# Altium schematic symbol library power.SchLib: 83 symbols
Pins are listed as number, name and electrical type; pins without a type are passive.

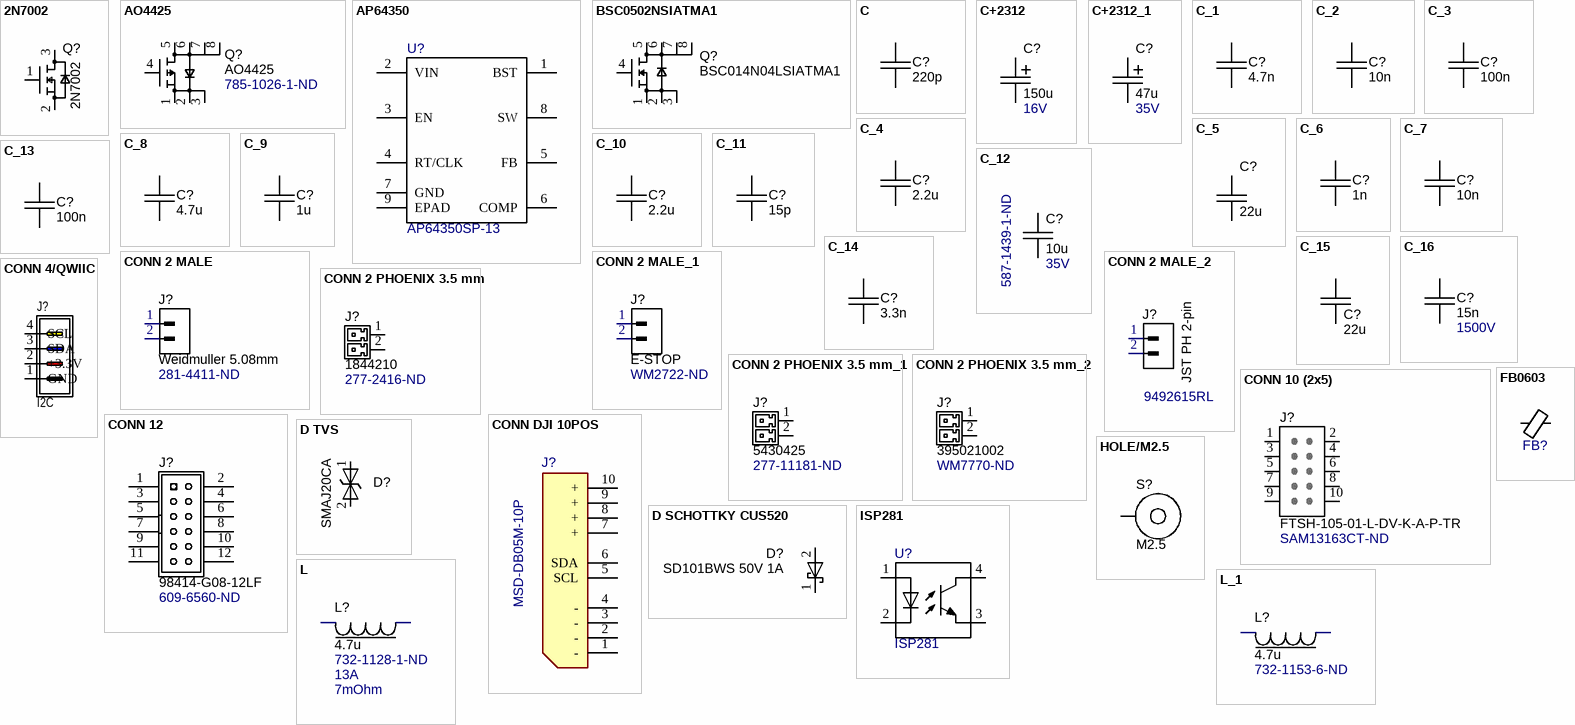
[diagram p0: symbols 2N7002 to L_1]

## 2N7002
designator Q?
MOSFET N-CH 60V 115MA SOT323; Value: 2N7002; Supplier 1: Digi-Key; Supplier Part Number 1: 2N7002H6327XTSA2CT-ND
footprint SOT23-3 (SOT23, 3-Leads, Body 3.0x2.6mm (max), Pitch 0.95mm, IPC Low Density)
pins: 1 VCC, 2 VCC, 3 VCC

## AO4425
designator Q?  Supplier Part Number 1: 785-1026-1-ND
P-Channel 38 V 14A (Ta) 3.1W (Ta) Surface Mount 8-SOIC; Rule: UNIONINDEX=0|RULEKIND=PolygonConnect|NETSCOPE=AnyNet|LAYERKIND=SameLayer|NAME=Schematic Polygon Connect Style|CONNECTSTYLE=Relief|RELIEFCONDUCTORWIDTH=15.748mil|RELIEFENTRIES=4|POLYGONRELIEFANGLE=90 Angle|AIRGAPWIDTH=5.9055mil|UNIT=Metric; Value: AO4425; Supplier 1: Digi-Key
footprint SOIC8 (8-Pin Small Outline Integrated Circuit 1.27 mm Pitch, IPC Low Density)
pins: 1 S, 2 S, 3 S, 4 Gate, 5 D, 6 D, 7 D, 8 D

## AP64350
designator U?, comment AP64350SP-13
Buck Switching Regulator IC Positive Adjustable 0.8V 1 Output 3.5A 8-SOIC (0.154", 3.90mm Width) Exposed Pad; Supplier 1: Avnet; Supplier Part Number 1: AP64350SP-13; Value: AP64350SP-13
footprint SOIC8-POWER_PAD (8-Pin Small Outline Integrated Circuit 1.27 mm Pitch, IPC Low Density)
pins: 1 BST, 2 VIN, 3 EN, 4 RT/CLK, 5 FB, 6 COMP, 7 GND, 8 SW, 9 EPAD

## BSC0502NSIATMA1
designator Q?, comment BSC014N04LSIATMA1
MOSFET N-CH 40V 31A/100A TDSON; Rule: UNIONINDEX=0|RULEKIND=PolygonConnect|NETSCOPE=AnyNet|LAYERKIND=SameLayer|NAME=Schematic Polygon Connect Style|CONNECTSTYLE=Relief|RELIEFCONDUCTORWIDTH=11.811mil|RELIEFENTRIES=4|POLYGONRELIEFANGLE=90 Angle|AIRGAPWIDTH=5.9055mil|UNIT=Metric; Value: BSC014N04LSIATMA1; Supplier 1: Digi-Key; Supplier Part Number 1: BSC014N04LSIATMA1CT-ND
footprint PG-TDSON-8_INF
pins: 1 S, 2 S, 3 S, 4 Gate, 5 D, 6 D, 7 D, 8 D

## C
designator C?, comment 220p
Chip Capacitor; Voltage: 16V; Dielectric: X7R; Supplier 2 Part Number: 1292-1393-1-ND; Supplier 2: Digi-Key; Value: 220p
footprint SM/C0603 (Chip Capacitor, Body 1.6x0.8mm, IPC Low Density)
pins: 1, 2

## C+2312
designator C?, comment 150u  Voltage: 16V
CAP ALUM POLY 150UF 20% 16V SMD; Rule: UNIONINDEX=0|RULEKIND=PolygonConnect|NETSCOPE=AnyNet|LAYERKIND=SameLayer|NAME=Schematic Polygon Connect Style|CONNECTSTYLE=Relief|RELIEFCONDUCTORWIDTH=39.3701mil|RELIEFENTRIES=4|POLYGONRELIEFANGLE=90 Angle|AIRGAPWIDTH=5.9055mil|UNIT=Metric; Value: 16SVP150M; Supplier 1: Digi-Key; Supplier Part Number 1: P16458CT-ND
footprint CAP_16SVP150M
pins: 1 +, 2 -

## C+2312_1
designator C?, comment 47u  Voltage: 35V
47µF Molded Tantalum Capacitors 25V 2917 (7343 Metric) 900mOhm; Rule: UNIONINDEX=0|RULEKIND=PolygonConnect|NETSCOPE=AnyNet|LAYERKIND=SameLayer|NAME=Schematic Polygon Connect Style|CONNECTSTYLE=Relief|RELIEFCONDUCTORWIDTH=39.3701mil|RELIEFENTRIES=4|POLYGONRELIEFANGLE=90 Angle|AIRGAPWIDTH=5.9055mil|UNIT=Metric; ESR: 200m; Supplier 1: Digi-Key; Supplier Part Number 1: 399-8543-1-ND; Value: 47u
footprint CAP-TANTAL-2917-7343
pins: 1 +, 2 -

## C_1
designator C?, comment 4.7n
Chip Capacitor; Voltage: 16V; Dielectric: X7R; Supplier 2 Part Number: 1292-1393-1-ND; Supplier 2: Digi-Key; Value: 4.7n
footprint SM/C0603 (Chip Capacitor, Body 1.6x0.8mm, IPC Low Density)
pins: 1, 2

## C_2
designator C?, comment 10n
Chip Capacitor; Voltage: 16V; Dielectric: X7R; Supplier 2 Part Number: 1292-1393-1-ND; Supplier 2: Digi-Key; Value: 10n
footprint SM/C0603 (Chip Capacitor, Body 1.6x0.8mm, IPC Low Density)
pins: 1, 2

## C_3
designator C?, comment 100n
Chip Capacitor; Voltage: 16V; Dielectric: X7R; Supplier 2 Part Number: 1292-1393-1-ND; Supplier 2: Digi-Key; Value: 100n
footprint SM/C0603 (Chip Capacitor, Body 1.6x0.8mm, IPC Low Density)
pins: 1, 2

## C_4
designator C?, comment 2.2u
GMK325B7225KNHT CAP CER 2.2UF 35V X7R 1210; Rule: UNIONINDEX=0|RULEKIND=PolygonConnect|NETSCOPE=AnyNet|LAYERKIND=SameLayer|NAME=Schematic Polygon Connect Style|CONNECTSTYLE=Relief|RELIEFCONDUCTORWIDTH=39.3701mil|RELIEFENTRIES=4|POLYGONRELIEFANGLE=90 Angle|AIRGAPWIDTH=5.9055mil|UNIT=Metric; Voltage: 35V; Dielectric: X7R; Supplier 1: Digi-Key; Supplier Part Number 1: 587-3720-1-ND; Value: GMK325B7225KNHT
footprint SM/C1210 (Chip Resistor, Body 3.2x1.6mm, IPC Low Density)
pins: 1, 2

## C_5
designator C?, comment 22u
CL32B226KOJVPJE CAP CER 22UF 16V X7R 1210; Rule: UNIONINDEX=0|RULEKIND=PolygonConnect|NETSCOPE=AnyNet|LAYERKIND=SameLayer|NAME=Schematic Polygon Connect Style|CONNECTSTYLE=Relief|RELIEFCONDUCTORWIDTH=39.3701mil|RELIEFENTRIES=4|POLYGONRELIEFANGLE=90 Angle|AIRGAPWIDTH=5.9055mil|UNIT=Metric; Supplier 1: Digi-Key; Supplier Part Number 1: 1276-6801-1-ND; Value: 22u
footprint SM/C1210 (Chip Resistor, Body 3.2x1.6mm, IPC Low Density)
pins: 1, 2

## C_6
designator C?, comment 1n
Chip Capacitor; Voltage: 16V; Dielectric: X7R; Value: 1n
footprint SM/C0603 (Chip Capacitor, Body 1.6x0.8mm, IPC Low Density)
pins: 1, 2

## C_7
designator C?, comment 10n
Chip Capacitor; Voltage: 16V; Dielectric: X7R; Value: 10n
footprint SM/C0603 (Chip Capacitor, Body 1.6x0.8mm, IPC Low Density)
pins: 1, 2

## C_8
designator C?, comment 4.7u
Chip Capacitor; Voltage: 16V; Dielectric: X7R; Value: 4.7u
footprint SM/C0603 (Chip Capacitor, Body 1.6x0.8mm, IPC Low Density)
pins: 1, 2

## C_9
designator C?, comment 1u
Chip Capacitor; Voltage: 16V; Dielectric: X7R; Value: 1u
footprint SM/C0603 (Chip Capacitor, Body 1.6x0.8mm, IPC Low Density)
pins: 1, 2

## C_10
designator C?, comment 2.2u
GMK325B7225KNHT CAP CER 2.2UF 35V X7R 1210; Voltage: 16V; Rule: UNIONINDEX=0|RULEKIND=PolygonConnect|NETSCOPE=AnyNet|LAYERKIND=SameLayer|NAME=Schematic Polygon Connect Style|CONNECTSTYLE=Relief|RELIEFCONDUCTORWIDTH=39.3701mil|RELIEFENTRIES=4|POLYGONRELIEFANGLE=90 Angle|AIRGAPWIDTH=5.9055mil|UNIT=Metric; Dielectric: X7R; Supplier 2 Part Number: 1292-1393-1-ND; Supplier 2: Digi-Key; Supplier 1: Digi-Key; Supplier Part Number 1: 587-3720-1-ND; Value: 2.2u
footprint SM/C1210 (Chip Resistor, Body 3.2x1.6mm, IPC Low Density)
pins: 1, 2

## C_11
designator C?, comment 15p
Chip Capacitor; Voltage: 16V; Dielectric: X7R; Value: 15p
footprint SM/C0603 (Chip Capacitor, Body 1.6x0.8mm, IPC Low Density)
pins: 1, 2

## C_12
designator C?, comment 10u  Supplier Part Number 1: 587-1439-1-ND  Voltage: 35V
10µF ±10% 25V Ceramic Capacitor X5R 1210 (3225 Metric); Rule: UNIONINDEX=0|RULEKIND=PolygonConnect|NETSCOPE=AnyNet|LAYERKIND=SameLayer|NAME=Schematic Polygon Connect Style|CONNECTSTYLE=Relief|RELIEFCONDUCTORWIDTH=39.3701mil|RELIEFENTRIES=4|POLYGONRELIEFANGLE=90 Angle|AIRGAPWIDTH=5.9055mil|UNIT=Metric; Value: GMK325BJ106KN-T; Supplier 1: Digi-Key
footprint SM/C1210 (Chip Resistor, Body 3.2x1.6mm, IPC Low Density)
pins: 1, 2

## C_13
designator C?, comment 100n
CL32B226KPJVPNE; Supplier 1: Digi-Key; Supplier Part Number 1: 490-1719-1-ND; Value: 100n
footprint SM/C0603 (Chip Capacitor, Body 1.6x0.8mm, IPC Low Density)
pins: 1, 2

## C_14
designator C?, comment 3.3n
CL32B226KPJVPNE; Supplier 1: Digi-Key; Supplier Part Number 1: 490-1719-1-ND; Value: 3.3n
footprint SM/C0603 (Chip Capacitor, Body 1.6x0.8mm, IPC Low Density)
pins: 1, 2

## C_15
designator C?, comment 22u
CL32B226KPJVPNE; Rule: UNIONINDEX=0|RULEKIND=PolygonConnect|NETSCOPE=AnyNet|LAYERKIND=SameLayer|NAME=Schematic Polygon Connect Style|CONNECTSTYLE=Relief|RELIEFCONDUCTORWIDTH=39.3701mil|RELIEFENTRIES=4|POLYGONRELIEFANGLE=90 Angle|AIRGAPWIDTH=5.9055mil|UNIT=Metric; Supplier 1: Digi-Key; Supplier Part Number 1: 490-1719-1-ND; Value: 22u
footprint SM/C1210 (Chip Resistor, Body 3.2x1.6mm, IPC Low Density)
pins: 1, 2

## C_16
designator C?, comment 15n  Voltage: 1500V
0.015 µF ±10% 1500V (1.5kV) Ceramic Capacitor X7R 1812 (4532 Metric); Dielectric: X7R; Supplier 1: Digi-Key; Supplier Part Number 1: 478-10711-1-ND; Value: 15n
footprint SM/C0603 (Chip Capacitor, Body 1.6x0.8mm, IPC Low Density)
footprint SM/C1812 (Footprint not found)
pins: 1, 2

## CONN 2 MALE
designator J?, comment Weidmuller 5.08mm  Supplier Part Number 1: 281-4411-ND
TERM BLOCK HDR 2POS 90DEG 5.08MM; Value: 1241060000; Rule: UNIONINDEX=0|RULEKIND=PolygonConnect|NETSCOPE=AnyNet|LAYERKIND=SameLayer|NAME=Schematic Polygon Connect Style|CONNECTSTYLE=Relief|RELIEFCONDUCTORWIDTH=39.3701mil|RELIEFENTRIES=4|POLYGONRELIEFANGLE=90 Angle|AIRGAPWIDTH=5.9055mil|UNIT=Metric; Supplier 1: Digi-Key
footprint CONN 2POS WEIDMULLER 5.08mm
pins: 1, 2

## CONN 2 MALE_1
designator J?, comment E-STOP  Supplier Part Number 1: WM2722-ND
Value: CONN 2.54; Supplier 1: Digi-Key
footprint CONN/HEADER/2.54mm/2POS
pins: 1, 2

## CONN 2 MALE_2
designator J?, comment JST PH 2-pin  Supplier Part Number 1: 9492615RL
Value: JST S2BPHSM4TBLFSN; Rule: UNIONINDEX=0|RULEKIND=PolygonConnect|NETSCOPE=AnyNet|LAYERKIND=SameLayer|NAME=Schematic Polygon Connect Style|CONNECTSTYLE=Relief|RELIEFCONDUCTORWIDTH=39.3701mil|RELIEFENTRIES=4|POLYGONRELIEFANGLE=90 Angle|AIRGAPWIDTH=5.9055mil|UNIT=Metric; Supplier 1: Farnell
footprint JST_S2B-PH-SM4-TB(LF)(SN)
pins: 1, 2

## CONN 2 PHOENIX 3.5 mm
designator J?, comment 1844210  Supplier Part Number 1: 277-2416-ND
TERM BLOCK HDR 2POS 90DEG 3.5MM; Imax: 8A; Rule: UNIONINDEX=0|RULEKIND=PolygonConnect|NETSCOPE=AnyNet|LAYERKIND=SameLayer|NAME=Schematic Polygon Connect Style|CONNECTSTYLE=Relief|RELIEFCONDUCTORWIDTH=39.3701mil|RELIEFENTRIES=4|POLYGONRELIEFANGLE=90 Angle|AIRGAPWIDTH=5.9055mil|UNIT=Metric; Supplier 1: Digi-Key; Value: 1844210
footprint CONN2/PHOENIX/MC 1.5-2-G-3.5
pins: 1, 2

## CONN 2 PHOENIX 3.5 mm_1
designator J?, comment 5430425  Supplier Part Number 1: 277-11181-ND
TERM BLOCK HDR 2POS 90DEG 3.5MM; Imax: 8A; Rule: UNIONINDEX=0|RULEKIND=PolygonConnect|NETSCOPE=AnyNet|LAYERKIND=SameLayer|NAME=Schematic Polygon Connect Style|CONNECTSTYLE=Relief|RELIEFCONDUCTORWIDTH=39.3701mil|RELIEFENTRIES=4|POLYGONRELIEFANGLE=90 Angle|AIRGAPWIDTH=5.9055mil|UNIT=Metric; Supplier 1: Digi-Key; Value: 5430425
footprint CONN2/PHOENIX/MC 1.5-2-G-3.5-GRAY
pins: 1, 2

## CONN 2 PHOENIX 3.5 mm_2
designator J?, comment 395021002  Supplier Part Number 1: WM7770-ND
TERM BLOCK HDR 2POS 90DEG 3.5MM BLACK; Imax: 8A; Rule: UNIONINDEX=0|RULEKIND=PolygonConnect|NETSCOPE=AnyNet|LAYERKIND=SameLayer|NAME=Schematic Polygon Connect Style|CONNECTSTYLE=Relief|RELIEFCONDUCTORWIDTH=39.3701mil|RELIEFENTRIES=4|POLYGONRELIEFANGLE=90 Angle|AIRGAPWIDTH=5.9055mil|UNIT=Metric; Supplier 1: Digi-Key; Value: 395021002
footprint CONN2/PHOENIX/MC 1.5-2-G-3.5-BLACK
pins: 1, 2

## CONN 4/QWIIC
designator J?, comment I2C
JST Sparkfun Qwiic Connector; Value: Sparkfun Qwiic
footprint QWIIC-SM04B-SRSS-TB
pins: 1 GND (power), 2 +3.3V (power), 3 SDA (oc), 4 SCL (oc)

## CONN 10 (2x5)
designator J?, comment FTSH-105-01-L-DV-K-A-P-TR  Supplier Part Number 1: SAM13163CT-ND
Connector Header Surface Mount 10 position 0.050" (1.27mm); Supplier 1: Digi-Key
footprint SAMTEC_FTSH-105-01-L-DV-K-A-P (Footprint not found)
pins: 1, 2, 3, 4, 5, 6, 7, 8, 9, 10

## CONN 12
designator J?, comment 98414-G08-12LF  Supplier Part Number 1: 609-6560-ND
CONN HEADER VERT 12POS 2MM; Supplier 1: Digi-Key; Value: 98414-G08-12LF
footprint CONN14 2mm (98414-G06-12ULF)
pins: 1, 2, 3, 4, 5, 6, 7, 8, 9, 10, 11, 12

## CONN DJI 10POS
designator J?, comment MSD-DB05M-10P
CONN DJI 10POS; Value: MSD-DB05M-10P
footprint CONN DJI-Mavic2
pins: 1 - (power), 2 - (power), 3 - (power), 4 - (power), 5 SCL, 6 SDA, 7 + (power), 8 + (power), 9 + (power), 10 + (power)

## D SCHOTTKY CUS520
designator D?, comment SD101BWS 50V 1A
Diode Schottky 30V 200mA Surface Mount USC; Value: SD101BWS-TP; Supplier 1: Digi-Key; Supplier Part Number 1: SD101BWSTPMSCT-ND
footprint SOD323
pins: 1 CATHODE, 2 ANODE

## D TVS
designator D?, comment SMAJ20CA
32.4V Clamp 12.3A Ipp Tvs Diode Surface Mount DO-214AC (SMA); Supplier 1: Digi-Key; Supplier Part Number 1: SMAJ20CA-E3/61GICT-ND; Value: SMAJ20CA
footprint DO214AC
pins: 1, 2

## FB0603
designator FB?, comment 250@1MHz  (value not drawn)
Value: MI0603L301R-10; Supplier 1: Digi-Key; Supplier Part Number 1: 240-2374-1-ND
footprint SM/L0603 (Chip Capacitor, Body 1.6x0.8mm, IPC Low Density)
pins: 1, 2

## HOLE/M2.5
designator S?, comment M2.5  (no BOM)
footprint HW/HOLE/M2.5/VIA
pins: 1

## ISP281
designator U?
OPTOISOLATR 5KV TRANSISTOR 4-SMD; Value: ISP281; Supplier 1: Digi-Key; Supplier Part Number 1: 58-ISP281DCT-ND
footprint SOIC-4
pins: 1 A, 2 K, 3 E, 4 C

## L
designator L?, comment 4.7u  Supplier Part Number 1: 732-1128-1-ND  Imax: 13A  Rs: 7mOhm
FIXED IND 4.7UH 13A 7 MOHM SMD / 7443551470; Value: 732-1128-1-ND; Rule: UNIONINDEX=0|RULEKIND=PolygonConnect|NETSCOPE=AnyNet|LAYERKIND=SameLayer|NAME=Schematic Polygon Connect Style|THPAD.CONNECTSTYLE=Relief|THPAD.RELIEFCONDUCTORWIDTH=39.3701mil|THPAD.RELIEFENTRIES=4|THPAD.POLYGONRELIEFANGLE=90 Angle|THPAD.AIRGAPWIDTH=5.9055mil|SMDPAD.CONNECTSTYLE=Relief|SMDPAD.RELIEFCONDUCTORWIDTH=39.3701mil|SMDPAD.RELIEFENTRIES=4|SMDPAD.POLYGONRELIEFANGLE=90 Angle|SMDPAD.AIRGAPWIDTH=5.9055mil|VIA.CONNECTSTYLE=Relief|VIA.RELIEFCONDUCTORWIDTH=10mil|VIA.RELIEFENTRIES=4|VIA.POLYGONRELIEFANGLE=45 Angle|VIA.AIRGAPWIDTH=10mil|UNIT=Metric; Isat: *; Supplier 1: Digi-Key
footprint WE-7443551470 (Inductor)
pins: 1, 2

## L_1
designator L?, comment 4.7u  Supplier Part Number 1: 732-1153-6-ND
FIXED IND 4.7UH 6A 19.5 MOHM SMD; Value: 744311470; Rule: UNIONINDEX=0|RULEKIND=PolygonConnect|NETSCOPE=AnyNet|LAYERKIND=SameLayer|NAME=Schematic Polygon Connect Style|CONNECTSTYLE=Relief|RELIEFCONDUCTORWIDTH=39.3701mil|RELIEFENTRIES=4|POLYGONRELIEFANGLE=45 Angle|AIRGAPWIDTH=5.9055mil|UNIT=Metric; Isat: *; Supplier 1: Digi-Key
footprint IND_311470_WRE
pins: 1, 2

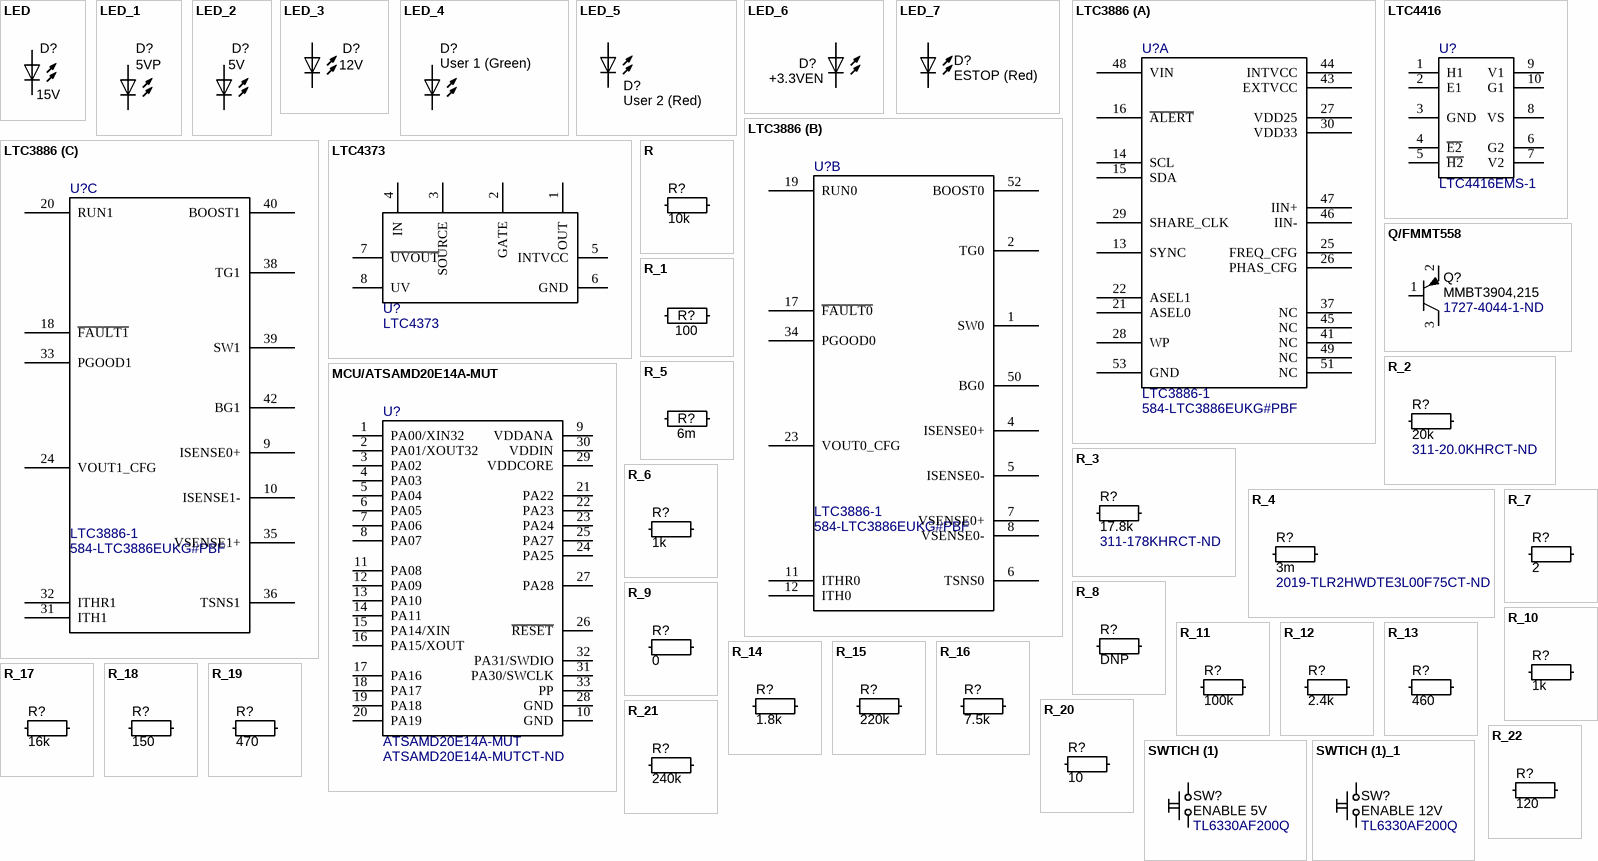
[diagram p1: symbols LED to SWTICH (1)_1]

## LED
designator D?, comment 15V
Value: 150060SS75000; Supplier 1: Digi-Key; Supplier Part Number 1: 732-4979-1-ND
footprint SM/LED0603 (Chip Capacitor, Body 1.6x0.8mm, IPC Low Density)
pins: 1, 2

## LED_1
designator D?, comment 5VP
Value: 150060SS75000; Supplier 1: Digi-Key; Supplier Part Number 1: 732-4979-1-ND
footprint SM/LED0603 (Chip Capacitor, Body 1.6x0.8mm, IPC Low Density)
pins: 1, 2

## LED_2
designator D?, comment 5V
Value: 150060SS75000; Supplier 1: Digi-Key; Supplier Part Number 1: 732-4979-1-ND
footprint SM/LED0603 (Chip Capacitor, Body 1.6x0.8mm, IPC Low Density)
pins: 1, 2

## LED_3
designator D?, comment 12V
Value: 150060SS75000; Supplier 1: Digi-Key; Supplier Part Number 1: 732-4979-1-ND
footprint SM/LED0603 (Chip Capacitor, Body 1.6x0.8mm, IPC Low Density)
pins: 1, 2

## LED_4
designator D?, comment User 1 (Green)
Value: 150060SS75000; Color: Green
footprint SM/LED0603 (Chip Capacitor, Body 1.6x0.8mm, IPC Low Density)
pins: 1, 2

## LED_5
designator D?, comment User 2 (Red)
Value: SM0603URC; Supplier 1: Digi-Key; Supplier Part Number 1: 492-1326-1-ND; Color: Red
footprint SM/LED0603 (Chip Capacitor, Body 1.6x0.8mm, IPC Low Density)
pins: 1, 2

## LED_6
designator D?, comment +3.3VEN
Value: 150060SS75000; Supplier 1: Digi-Key; Supplier Part Number 1: 492-1325-1-ND
footprint SM/LED0603 (Chip Capacitor, Body 1.6x0.8mm, IPC Low Density)
pins: 1, 2

## LED_7
designator D?, comment ESTOP (Red)
Value: SM0603URC; Supplier 1: Digi-Key; Supplier Part Number 1: 492-1326-1-ND; Color: Red
footprint SM/LED0603 (Chip Capacitor, Body 1.6x0.8mm, IPC Low Density)
pins: 1, 2

## LTC3886
designator U?, comment LTC3886-1  Supplier Part Number 1: 584-LTC3886EUKG#PBF
Supplier 1: Mouser; Value: LTC3886-1
footprint LT3886
part A pins: 13 SYNC "External Clock Synchronization Input and  Open-Drain Output Pin. If an external clock is present  at this pin, the switching frequency will be synchronized  to the external clock. If clock master mode is enabled,  this pin will pull low at the switching frequency with a  500ns pulse width to ground. A resistor pull-up to 3.3V  is required in the application.", 14 SCL "Serial Bus Clock Input. Open-drain output,  can hold the output low if clock stretching is enabled.  A pull-up resistor to a voltage between 1.8V to 3.3V is  required in the application.", 15 SDA "Serial Bus Data Input and Output. A pull-up  resistor to a voltage between 1.8V to 3.3V is required in  the application.", 16 ~{ALERT} "Open-Drain Digital Output. Connect the  SMBALERT signal to this pin. A pull-up resistor to 3.3V  is required in the application.", 21 ASEL0 "Serial Bus Address Select  Inputs. Connect optional 1% resistor dividers between  VDD25 and GND to these pins to select the serial bus  interface address. Refer to the Applications Information  section for more detail. Minimize capacitance when the  pin is open to assure accurate detection of the pin state.", 22 ASEL1 "Serial Bus Address Select  Inputs. Connect optional 1% resistor dividers between  VDD25 and GND to these pins to select the serial bus  interface address. Refer to the Applications Information  section for more detail. Minimize capacitance when the  pin is open to assure accurate detection of the pin state.", 25 FREQ_CFG "Frequency Select Pin. Connect a  ±1% resistor divider between the chip VDD25 FREQ_CFG  and GND in order to select switching frequency. If the pin  is left open, the IC will use the value programmed in the  EEPROM. Refer to the Applications Information section  for more detail. Minimize capacitance when the pin is  open to assure accurate detection of the pin state.", 26 PHAS_CFG "Phase Configuration Input. Connect  an optional 1% resistor divider between VDD25 and GND  to this pin to configure the phase of each PWM channel  relative to SYNC. Refer to the Applications Information  section for more detail. Minimize capacitance when the  pin is open to assure accurate detection of the pin state.", 27 VDD25 ": Internally Generated 2.5V Power Supply  Output. Bypass this pin to GND with a low ESR 1μF capacitor. Do not load this pin externally except for the resistor  dividers needed for the LTC3886 resistor con-figuration  pins.", 28 WP "Write Protect Pin Active High. An internal  10µA current source pulls the pin to VDD33. If WP is high,  the PMBus writes are restricted.", 29 SHARE_CLK "Share Clock, Bidirectional OpenDrain Clock Sharing Pin. Nominally 100kHz. Used to synchronize the timing between multiple ADI controllers. Tie  all the SHARE_CLK pins together. All ADI controllers will  synchronize to the fastest clock. A pull-up resistor to 3.3V  is required in the application.", 30 VDD33 "Internally Generated 3.3V Power Supply  Output. Bypass this pin to GND with a low ESR 1μF capacitor. Do not load this pin with external current.", 37 NC, 41 NC, 43 EXTVCC "External power input to an internal LDO  connected to INTVCC. This LDO supplies INTVCC power  bypassing the internal LDO powered from VIN whenever  EXTVCC is higher than 4.7V. See EXTVCC connection in the  Applications Information Section. Do not float or exceed  14V on this pin. Decouple this pin to GND with a minimum  of 4.7μF low ESR tantalum or ceramic capacitor. If the  EXTVCC pin is not used, tie the pin to GND. The EXTVCC  pin may be connected to a higher voltage than the VIN  pin. If the EXTVCC pin is tied to an output of the controller and the external load can pull the output below –0.3V,  a Schottky diode from GND to EXTVCC must be used to  protect the EXTVCC pin.", 44 INTVCC "Internal Regulator 5V Output. The control circuits are powered from this voltage. Decouple this  pin to GND with a minimum of 4.7μF low ESR tantalum  or ceramic capacitor.", 45 NC, 46 IIN- "Negative Input of High Side Current Sense  Amplifier.", 47 IIN+ "Positive Input of High Side Current Sense  Amplifier.", 48 VIN "Main Input Supply. Decouple this pin to GND  with a capacitor (0.1µF to 1µF). For applications where  the main input power is 5V, tie the VIN and INTVCC pins  together. If the input current sense amplifier is not used,  this pin must be shorted to the IIN+ and IIN– pins.", 49 NC, 51 NC, 53 GND "Ground. All small-signal  and compensation components should connect to this  ground, at one point."
part B pins: 1 SW0 "Switch Node Connections to  Inductors. Voltage swings at the pins are from a Schottky  diode (external) voltage drop below ground to VIN.", 2 TG0 "Top Gate Driver Outputs. These are  the outputs of floating drivers with a voltage swing equal  to INTVCC superimposed on the switch node voltages.", 4 ISENSE0+ "Current Sense Comparator  Inputs. The (+) input to the current comparator is normally connected to the DCR sensing network or current  sensing resistor.", 5 ISENSE0- ": Current Sense Comparator  Inputs. The (–) input is connected to the output.", 6 TSNS0 "External Diode Temperature  Sense. Connect to the anode of a diode-connected PNP  transistor in order to sense remote temperature. Directly  connect the cathode using a separate ground return path  to Pin 53 of the LTC3886. A bypass capacitor between  the anode and cathode must be located in close proximity  to the transistor. If external temperature sense elements  are not installed, short pin to ground and set the UT_  FAULT_LIMIT to –275°C and the UT_FAULT_RESPONSE  to ignore.", 7 VSENSE0+ "Positive Output Voltage  Sense Inputs.", 8 VSENSE0- "Channel 0 Negative Output Voltage  Sense Input.", 11 ITHR0 "Loop Compensation Nodes.", 12 ITH0 "Current Control Threshold and  Error Amplifier Compensation Nodes. Each associated  channel’s current comparator tripping threshold increases  with its ITH voltage.", 17 ~{FAULT0} "Digital Programmable  General Purpose Inputs and Outputs. Open-drain output.  A pull-up resistor to a voltage between 1.8V to 3.3V is  required in the application.", 19 RUN0 "Enable Run Input and Output.  Logic high on this pin enables the controller. Open-drain  output holds the pin low until the LTC3886 is out of reset.  This pin should be driven by an open-drain digital output.  A pull-up resistor to a voltage between 1.8V to 3.3V is  required in the application.", 23 VOUT0_CFG "Output Voltage  Select Pins. Connect a ±1% resistor divider between the  chip VDD25, VOUT_CFG and GND in order to select output  voltage. If the pin is left open, the IC will use the value  programmed in the EEPROM. Refer to the Applications  Information section for more detail. Minimize capacitance  when the pin is open to assure accurate detection of the  pin state.", 34 PGOOD0 "Power Good Indicator  Outputs. Open-drain logic output that is pulled to ground  when the output exceeds OV/UV thresholds. The output  is deglitched by an internal 60μs filter. A pull-up resistor  to 3.3V is required in the application.", 50 BG0 ": Bottom Gate Driver Outputs. This  pin drives the gates of the bottom N-channel MOSFET  between GND and INTVCC.", 52 BOOST0 "Boosted Floating Driver  Supplies. The (+) terminal of the bootstrap capacitor connects to this pin. This pin swings from a diode voltage  drop below INTVCC up to VIN + INTVCC."
part C pins: 9 ISENSE0+ "Current Sense Comparator  Inputs. The (+) input to the current comparator is normally connected to the DCR sensing network or current  sensing resistor.", 10 ISENSE1- ": Current Sense Comparator  Inputs. The (–) input is connected to the output.", 18 ~{FAULT1} "Digital Programmable  General Purpose Inputs and Outputs. Open-drain output.  A pull-up resistor to a voltage between 1.8V to 3.3V is  required in the application.", 20 RUN1 "Enable Run Input and Output.  Logic high on this pin enables the controller. Open-drain  output holds the pin low until the LTC3886 is out of reset.  This pin should be driven by an open-drain digital output.  A pull-up resistor to a voltage between 1.8V to 3.3V is  required in the application.", 24 VOUT1_CFG "Output Voltage  Select Pins. Connect a ±1% resistor divider between the  chip VDD25, VOUT_CFG and GND in order to select output  voltage. If the pin is left open, the IC will use the value  programmed in the EEPROM. Refer to the Applications  Information section for more detail. Minimize capacitance  when the pin is open to assure accurate detection of the  pin state.", 31 ITH1 "Current Control Threshold and  Error Amplifier Compensation Nodes. Each associated  channel’s current comparator tripping threshold increases  with its ITH voltage.", 32 ITHR1 "Loop Compensation Nodes.", 33 PGOOD1 "Power Good Indicator  Outputs. Open-drain logic output that is pulled to ground  when the output exceeds OV/UV thresholds. The output  is deglitched by an internal 60μs filter. A pull-up resistor  to 3.3V is required in the application.", 35 VSENSE1+ "Positive Output Voltage  Sense Inputs.", 36 TSNS1 "External Diode Temperature  Sense. Connect to the anode of a diode-connected PNP  transistor in order to sense remote temperature. Directly  connect the cathode using a separate ground return path  to Pin 53 of the LTC3886. A bypass capacitor between  the anode and cathode must be located in close proximity  to the transistor. If external temperature sense elements  are not installed, short pin to ground and set the UT_  FAULT_LIMIT to –275°C and the UT_FAULT_RESPONSE  to ignore.", 38 TG1 "Top Gate Driver Outputs. These are  the outputs of floating drivers with a voltage swing equal  to INTVCC superimposed on the switch node voltages.", 39 SW1 "Switch Node Connections to  Inductors. Voltage swings at the pins are from a Schottky  diode (external) voltage drop below ground to VIN.", 40 BOOST1 "Boosted Floating Driver  Supplies. The (+) terminal of the bootstrap capacitor connects to this pin. This pin swings from a diode voltage  drop below INTVCC up to VIN + INTVCC.", 42 BG1 ": Bottom Gate Driver Outputs. This  pin drives the gates of the bottom N-channel MOSFET  between GND and INTVCC."

## LTC4373
designator U?
LOW ICC IDEAL DIODE CONTROLLER W; Value: LTC4373; Supplier 1: Digi-Key; Supplier Part Number 1: 161-LTC4373IMS8#PBF-ND
footprint MSOP8 (TSOP, 8-Leads, Body 3.00x3.00mm, Pitch 0.65mm, IPC Medium Density)
pins: 1 OUT, 2 GATE, 3 SOURCE, 4 IN, 5 INTVCC, 6 GND, 7 ~{UVOUT}, 8 UV

## LTC4416
designator U?, comment LTC4416EMS-1
IC OR CTRLR SRC SELECT 10MSOP; Supplier 1: Digi-Key; Value: LTC4416EMS-1; Supplier Part Number 1: 505-LTC4416EMS-1#PBF-ND
footprint MSOP10 (TSSOP, 10-Leads, Body 3.00x3.00mm, Pitch 0.50mm, Thermal Pad 1.68.2x1.68.2mm, IPC Medium Density)
pins: 1 H1, 2 E1, 3 GND (power), 4 ~{E2}, 5 ~{H2}, 6 G2, 7 V2, 8 VS, 9 V1, 10 G1

## MCU/ATSAMD20E14A-MUT
designator U?, comment ATSAMD20E14A-MUT  Supplier Part Number 1: ATSAMD20E14A-MUTCT-ND
ARM® Cortex®-M0+ SAM D20E Microcontroller IC 32-Bit 48MHz 16KB (16K x 8) FLASH 32-QFN (5x5); Supplier 1: Digi-Key; Value: ATSAMD20E14A-MUT
footprint QFN32_5X5MC_MCH
pins: 1 PA00/XIN32, 2 PA01/XOUT32, 3 PA02, 4 PA03, 5 PA04, 6 PA05, 7 PA06, 8 PA07, 9 VDDANA, 10 GND, 11 PA08, 12 PA09, 13 PA10, 14 PA11, 15 PA14/XIN, 16 PA15/XOUT, 17 PA16, 18 PA17, 19 PA18, 20 PA19, 21 PA22, 22 PA23, 23 PA24, 24 PA25, 25 PA27, 26 ~{RESET}, 27 PA28, 28 GND, 29 VDDCORE, 30 VDDIN, 31 PA30/SWCLK, 32 PA31/SWDIO, 33 PP

## Q/FMMT558
designator Q?, comment MMBT3904,215  Supplier Part Number 1: 1727-4044-1-ND
TRANS PNP 400V 150MA HV SOT23-3; Value: MMBT3904,215; Supplier 1: Digi-Key
footprint SOT23-3 (SOT23, 3-Leads, Body 3.0x2.6mm (max), Pitch 0.95mm, IPC Low Density)
pins: 1 B, 2 E, 3 C

## R
designator R?, comment 10k
Chip Resistor SMD; Value: 10k
simulation model RES (Default semiconductor resistor)
footprint SM/R0603 (Chip Resistor, Body 1.6x0.8mm, IPC Low Density)
pins: 1, 2

## R_1
designator R?, comment 100
Chip Resistor SMD; Value: 100
simulation model RES (Default semiconductor resistor)
footprint SM/R0603 (Chip Resistor, Body 1.6x0.8mm, IPC Low Density)
pins: 1, 2

## R_2
designator R?, comment 20k  Supplier Part Number 1: 311-20.0KHRCT-ND
Chip Resistor SMD; Value: RC0603FR-0720KL; Supplier 1: Digi-Key
simulation model RES (Default semiconductor resistor)
footprint SM/R0603 (Chip Resistor, Body 1.6x0.8mm, IPC Low Density)
pins: 1, 2

## R_3
designator R?, comment 17.8k  Supplier Part Number 1: 311-178KHRCT-ND
Chip Resistor SMD; Value: 17.8k; Supplier 1: Digi-Key
simulation model RES (Default semiconductor resistor)
footprint SM/R0603 (Chip Resistor, Body 1.6x0.8mm, IPC Low Density)
pins: 1, 2

## R_4
designator R?, comment 3m
2019-TLR2HWDTE3L00F75CT-ND; Rule: UNIONINDEX=0|RULEKIND=PolygonConnect|NETSCOPE=AnyNet|LAYERKIND=SameLayer|NAME=Schematic Polygon Connect Style|CONNECTSTYLE=Relief|RELIEFCONDUCTORWIDTH=39.3701mil|RELIEFENTRIES=4|POLYGONRELIEFANGLE=45 Angle|AIRGAPWIDTH=5.9055mil|UNIT=Metric; Supplier 1: Digi-Key; Supplier Part Number 1: 2019-TLR2HWDTE3L00F75CT-ND; Value: TLR2HWDTE3L00F75
simulation model RES (Default semiconductor resistor)
footprint SM/R2010 (Footprint not found)
pins: 1, 2

## R_5
designator R?, comment 6m
Chip Resistor SMD; Value: RHM.006ALCT; Rule: UNIONINDEX=0|RULEKIND=PolygonConnect|NETSCOPE=AnyNet|LAYERKIND=SameLayer|NAME=Schematic Polygon Connect Style|CONNECTSTYLE=Relief|RELIEFCONDUCTORWIDTH=39.3701mil|RELIEFENTRIES=4|POLYGONRELIEFANGLE=90 Angle|AIRGAPWIDTH=5.9055mil|UNIT=Metric; Supplier 1: Digi-Key; Supplier Part Number 1: RHM.006ALCT-ND
simulation model RES (Default semiconductor resistor)
footprint SM/R1206 (Chip Resistor, Body 3.2x1.6mm, IPC Low Density)
pins: 1, 2

## R_6
designator R?, comment 1k
Chip Resistor SMD; Value: 1k
simulation model RES (Default semiconductor resistor)
footprint SM/R0603 (Chip Resistor, Body 1.6x0.8mm, IPC Low Density)
pins: 1, 2

## R_7
designator R?, comment 2
Chip Resistor SMD; Value: 2
simulation model RES (Default semiconductor resistor)
footprint SM/R0603 (Chip Resistor, Body 1.6x0.8mm, IPC Low Density)
pins: 1, 2

## R_8
designator R?, comment DNP
Chip Resistor SMD; Value: DNP
simulation model RES (Default semiconductor resistor)
footprint SM/R0603 (Chip Resistor, Body 1.6x0.8mm, IPC Low Density)
pins: 1, 2

## R_9
designator R?, comment 0
Chip Resistor SMD; Value: 0
simulation model RES (Default semiconductor resistor)
footprint SM/R0603 (Chip Resistor, Body 1.6x0.8mm, IPC Low Density)
pins: 1, 2

## R_10
designator R?, comment 1k
Chip Resistor SMD; Value: 1k
simulation model RES (Default semiconductor resistor)
footprint SM/R0603 (Chip Resistor, Body 1.6x0.8mm, IPC Low Density)
pins: 1, 2

## R_11
designator R?, comment 100k
Chip Resistor SMD; Value: 100k
simulation model RES (Default semiconductor resistor)
footprint SM/R0603 (Chip Resistor, Body 1.6x0.8mm, IPC Low Density)
pins: 1, 2

## R_12
designator R?, comment 2.4k
Chip Resistor SMD; Value: 2.4k
simulation model RES (Default semiconductor resistor)
footprint SM/R0603 (Chip Resistor, Body 1.6x0.8mm, IPC Low Density)
pins: 1, 2

## R_13
designator R?, comment 460
Chip Resistor SMD; Value: 460
simulation model RES (Default semiconductor resistor)
footprint SM/R0603 (Chip Resistor, Body 1.6x0.8mm, IPC Low Density)
pins: 1, 2

## R_14
designator R?, comment 1.8k
Chip Resistor SMD; Value: 1.8k
simulation model RES (Default semiconductor resistor)
footprint SM/R0603 (Chip Resistor, Body 1.6x0.8mm, IPC Low Density)
pins: 1, 2

## R_15
designator R?, comment 220k
Chip Resistor SMD; Value: 220k
simulation model RES (Default semiconductor resistor)
footprint SM/R0603 (Chip Resistor, Body 1.6x0.8mm, IPC Low Density)
pins: 1, 2

## R_16
designator R?, comment 7.5k
Chip Resistor SMD; Value: 7.5k
simulation model RES (Default semiconductor resistor)
footprint SM/R0603 (Chip Resistor, Body 1.6x0.8mm, IPC Low Density)
pins: 1, 2

## R_17
designator R?, comment 16k
Chip Resistor SMD; Value: 16k
simulation model RES (Default semiconductor resistor)
footprint SM/R0603 (Chip Resistor, Body 1.6x0.8mm, IPC Low Density)
pins: 1, 2

## R_18
designator R?, comment 150
Chip Resistor SMD; Value: 150
simulation model RES (Default semiconductor resistor)
footprint SM/R0603 (Chip Resistor, Body 1.6x0.8mm, IPC Low Density)
pins: 1, 2

## R_19
designator R?, comment 470
Chip Resistor SMD; Value: 470
simulation model RES (Default semiconductor resistor)
footprint SM/R0603 (Chip Resistor, Body 1.6x0.8mm, IPC Low Density)
pins: 1, 2

## R_20
designator R?, comment 10
Chip Resistor SMD; Value: 10
simulation model RES (Default semiconductor resistor)
footprint SM/R0603 (Chip Resistor, Body 1.6x0.8mm, IPC Low Density)
pins: 1, 2

## R_21
designator R?, comment 240k
Chip Resistor SMD; Value: 240k
simulation model RES (Default semiconductor resistor)
footprint SM/R0603 (Chip Resistor, Body 1.6x0.8mm, IPC Low Density)
pins: 1, 2

## R_22
designator R?, comment 120
Chip Resistor SMD; Value: 120
simulation model RES (Default semiconductor resistor)
footprint SM/R0603 (Chip Resistor, Body 1.6x0.8mm, IPC Low Density)
pins: 1, 2

## SWTICH (1)
designator SW?, comment ENABLE 5V  value TL6330AF200Q
Supplier 1: Digi-Key; Supplier Part Number 1: EG5546CT-ND
footprint PB TL6330
pins: 1, 2

## SWTICH (1)_1
designator SW?, comment ENABLE 12V  value TL6330AF200Q
Supplier 1: TI store; Supplier Part Number 1: TL751M12QKTTRQ1
footprint PB TL6330
pins: 1, 2

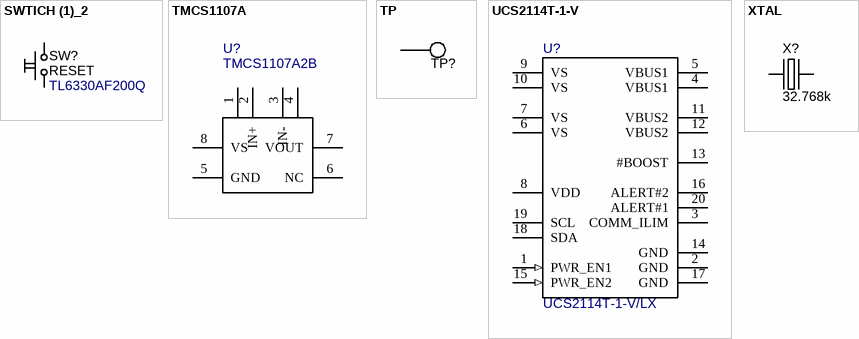
[diagram p2: symbols SWTICH (1)_2 to XTAL]

## SWTICH (1)_2
designator SW?, comment RESET  value TL6330AF200Q
Supplier 1: Digi-Key; Supplier Part Number 1: EG5546CT-ND
footprint PB TL6330
pins: 1, 2

## TMCS1107A
designator U?, comment TMCS1107A2B
AEC-Q100, 420-V ISOLATED HALL-EF; Rule: UNIONINDEX=0|RULEKIND=PolygonConnect|NETSCOPE=AnyNet|LAYERKIND=SameLayer|NAME=Schematic Polygon Connect Style|CONNECTSTYLE=Relief|RELIEFCONDUCTORWIDTH=19.685mil|RELIEFENTRIES=4|POLYGONRELIEFANGLE=90 Angle|AIRGAPWIDTH=5.9055mil|UNIT=Metric; Supplier 1: Digi-Key; Value: TMCS1107A2B; Supplier Part Number 1: 296-TMCS1107A2BQDRQ1CT-ND
footprint SOIC8 (8-Pin Small Outline Integrated Circuit 1.27 mm Pitch, IPC Low Density)
pins: 1 IN+, 2 IN+, 3 IN-, 4 IN-, 5 GND, 6 NC, 7 VOUT, 8 VS

## TP
designator TP?  (value not drawn)  (no BOM)
Test Point
footprint TP/0.6
pins: 1

## UCS2114T-1-V
designator U?, comment UCS2114T-1-V/LX
Power Switch/Driver 1:1 - 3A 20-VQFN (3x3); Value: UCS2114T-1-V/LX; Supplier 1: Digi-Key; Supplier Part Number 1: UCS2114T-1-V/LXCT-ND
footprint IC_UCS2114-1-V/LX
pins: 1 PWR_EN1 (in), 2 GND (power), 3 COMM_ILIM, 4 VBUS1 (power), 5 VBUS1 (power), 6 VS (power), 7 VS (power), 8 VDD (power), 9 VS (power), 10 VS (power), 11 VBUS2 (power), 12 VBUS2 (power), 13 #BOOST, 14 GND (power), 15 PWR_EN2 (in), 16 ALERT#2 (oc), 17 GND (power), 18 SDA, 19 SCL, 20 ALERT#1 (oc)

## XTAL
designator X?, comment 32.768k
Value: RT3215-32.768-12.5; Supplier 1: Digi-Key; Supplier Part Number 1: 2151-RT3215-32.768-12.5-TRCT-ND
footprint RT3215-32.768-12.5
pins: 1, 2